# EAGLE library part MPU6500 (library anykey)
Invensense MPU6500 combined gyro + accelerometer, I2C
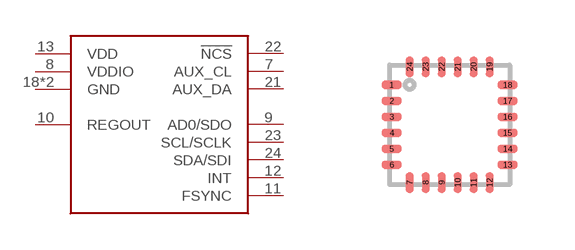
[diagram p21: symbol with the pads of QFN24-0.4; footprint QFN24-0.4]

Designator prefix -

## MPU6500QFN  [QFN24-0.4]
7  AUX_CL
8  VDDIO  pas
9  AD0/SDO  in
10  REGOUT  pas
11  FSYNC  in
12  INT  out
13  VDD  pwr
18  GND  pwr
20  GND  pwr
21  AUX_DA
22  !NCS
23  SCL/SCLK  in
24  SDA/SDI

## Footprint QFN24-0.4 (pad centres in mm)
QFN24, 0.4mm pitch. E.g. for Invensense MPU6500
smd 0.5 x 0.2: 1 -1.45,1; 2 -1.45,0.6; 3 -1.45,0.2; 4 -1.45,-0.2; 5 -1.45,-0.6; 6 -1.45,-1; 13 1.45,-1; 14 1.45,-0.6; 15 1.45,-0.2; 16 1.45,0.2; 17 1.45,0.6; 18 1.45,1
smd 0.2 x 0.5: 7 -1,-1.45; 8 -0.6,-1.45; 9 -0.2,-1.45; 10 0.2,-1.45; 11 0.6,-1.45; 12 1,-1.45; 19 1,1.45; 20 0.6,1.45; 21 0.2,1.45; 22 -0.2,1.45; 23 -0.6,1.45; 24 -1,1.45